# Altium schematic symbol library Schematic_Lib.SchLib: 31 symbols
Pins are listed as number, name and electrical type; pins without a type are passive.

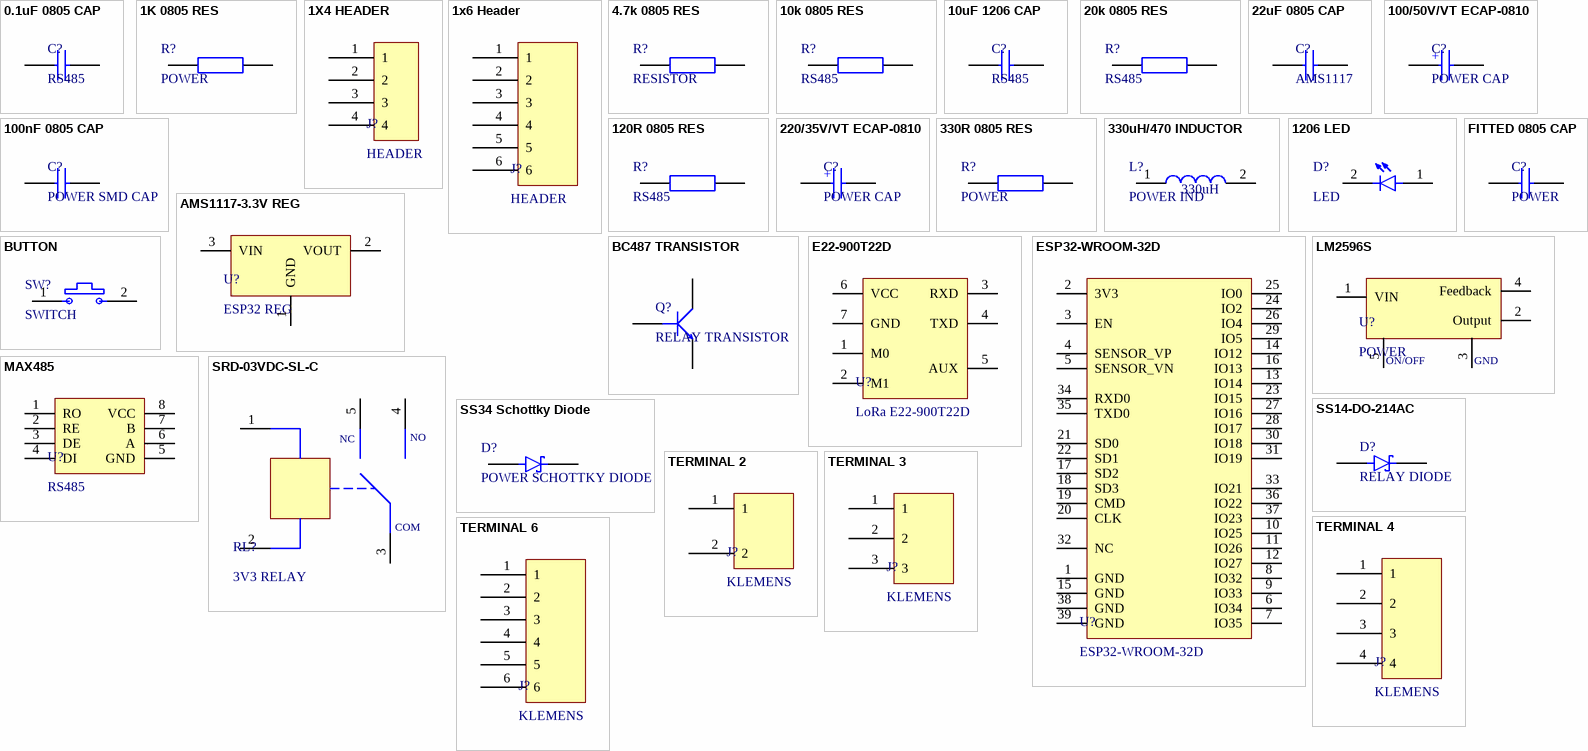
[diagram p0: symbols 0.1uF 0805 CAP to TERMINAL 6]

## 0.1uF 0805 CAP
designator C?, comment RS485
0.1uF Cap
footprint 0805 0.1uF CAP
pins: 1, 2

## 1K 0805 RES
designator R?, comment POWER
1K 0805 SMD RES POWER
footprint 0805 1K RES
pins: 1, 2

## 1X4 HEADER
designator J?, comment HEADER
PROGRAMMING HEADER
footprint 1x4 HEADER
pins: 1, 2, 3, 4

## 1x6 Header
designator J?, comment HEADER
1X6 HEADER
footprint 1x6 HEADER
pins: 1, 2, 3, 4, 5, 6

## 4.7k 0805 RES
designator R?, comment RESISTOR
4.7k RES for LoRa Pull-Up
footprint 0805 4.7k RES
pins: 1, 2

## 10k 0805 RES
designator R?, comment RS485
10k Resistor
footprint 0805 10k RES
pins: 1, 2

## 10uF 1206 CAP
designator C?, comment RS485
10uF Cap
footprint 1206 10uF CAP
pins: 1, 2

## 20k 0805 RES
designator R?, comment RS485
20k Resistor
footprint 0805 20k RES
pins: 1, 2

## 22uF 0805 CAP
designator C?, comment AMS1117
22uF 0805 CAP
footprint 0805 22uF CAP
pins: 1, 2

## 100/50V/VT ECAP-0810
designator C?, comment POWER CAP
Power Module 0810 Electrolyte Cap POWER
footprint 100/50V/VT ECAP-0810
pins: 1 +, 2 -

## 100nF 0805 CAP
designator C?, comment POWER SMD CAP
100nF CAP POWER
footprint 0805 100nF CAP
pins: 1, 2

## 120R 0805 RES
designator R?, comment RS485
120R Resistor
footprint 0805 120R RES
pins: 1, 2

## 220/35V/VT ECAP-0810
designator C?, comment POWER CAP
Power Module 0810 Electrolyte Cap POWER
footprint 220/35V/VT ECAP-0810
pins: 1 +, 2 -

## 330R 0805 RES
designator R?, comment POWER
330R 0805 SMD RES POWER
footprint 0805 330R RES
pins: 1, 2

## 330uH/470 INDUCTOR
designator L?, comment POWER IND
Power Module 0810 Inductor 12.3mmx12.3mm POWER
footprint 330uH/470 - INDUCTOR
pins: 1, 2
text: 330uH

## 1206 LED
designator D?, comment LED
footprint 1206 LED
pins: 1, 2

## AMS1117-3.3V REG
designator U?, comment ESP32 REG
5V to 3V3 Reg. for ESP32
footprint AMS1117
pins: 1 GND, 2 VOUT, 3 VIN

## BC487 TRANSISTOR
designator Q?, comment RELAY TRANSISTOR
BC847 Transistör Npn Smd Sot-23100mA, 45V NPN
footprint BC847 NPN
pins: 1 B (power), 2 E (power), 3 C (power)

## BUTTON
designator SW?, comment SWITCH
Switch For ESP32
footprint BUTTON
pins: 1, 2

## E22-900T22D
designator U?, comment LoRa E22-900T22D
Ebyte LoRa 22dBm 5-7km Communication Module
footprint E22-900T22D
pins: 1 M0, 2 M1, 3 RXD, 4 TXD, 5 AUX, 6 VCC, 7 GND

## ESP32-WROOM-32D
designator U?
SMD MODULE, ESP32-D0WDQ6, 32MBIT (FootPrint ölçüleri doğru 3D 'ye takılma)
footprint ESP32-WROOM-32D
pins: 1 GND, 2 3V3, 3 EN, 4 SENSOR_VP, 5 SENSOR_VN, 6 IO34, 7 IO35, 8 IO32, 9 IO33, 10 IO25, 11 IO26, 12 IO27, 13 IO14, 14 IO12, 15 GND, 16 IO13, 17 SD2, 18 SD3, 19 CMD, 20 CLK, 21 SD0, 22 SD1, 23 IO15, 24 IO2, 25 IO0, 26 IO4, 27 IO16, 28 IO17, 29 IO5, 30 IO18, 31 IO19, 32 NC, 33 IO21, 34 RXD0, 35 TXD0, 36 IO22, 37 IO23, 38 GND, 39 GND

## FITTED 0805 CAP
designator C?, comment POWER
Fılter Cap(No Value) for Power Module POWER
footprint 0805 FITTED CAP
pins: 1, 2

## LM2596S
designator U?, comment POWER
5V REGULATOR
footprint LM2596S
pins: 1 VIN, 2 Output, 3 GND, 4 Feedback, 5 ON/OFF

## MAX485
designator U?, comment RS485
RS485 Chip
footprint MAX485
pins: 1 RO, 2 RE, 3 DE, 4 DI, 5 GND, 6 A, 7 B, 8 VCC

## SRD-03VDC-SL-C
designator RL?, comment 3V3 RELAY
3.3V Relay
footprint SONGLE SRD-03VDC-SL-C
pins: 1 +, 2 -, 3 COM, 4 NO, 5 NC

## SS14-DO-214AC
designator D?, comment RELAY DIODE
1A 40V Schottky Diode
footprint SS14-DO-214AC
pins: 1, 2

## SS34 Schottky Diode
designator D?, comment POWER SCHOTTKY DIODE
SS34 SCHOTTKY DIODE MODULE POWER
footprint SS34
pins: 1 A, 2 K

## TERMINAL 2
designator J?, comment KLEMENS
2-PIN KLEMENS
footprint Terminal 2
pins: 1, 2

## TERMINAL 3
designator J?, comment KLEMENS
3-PIN KLEMENS
footprint TERMINAL 3
pins: 1, 2, 3

## TERMINAL 4
designator J?, comment KLEMENS
4-PIN KLEMENS
footprint TERMINAL 4
pins: 1, 2, 3, 4

## TERMINAL 6
designator J?, comment KLEMENS
6-PIN 90 DEGREE
footprint TERMINAL 6
pins: 1, 2, 3, 4, 5, 6